# Altium footprint library Demo_Board_library_PCB.PcbLib: 41 footprints (part 3 of 3)
Each footprint in its own frame and in the unit in brackets; x right, y up, seen from the top. Pads: shape width x height; smd on the part's side, far side on the other; paste and mask are expansions set on the pad; w line width, h text height; cw(c..) or ccw(c..) is an arc to the next point about the centre after c.
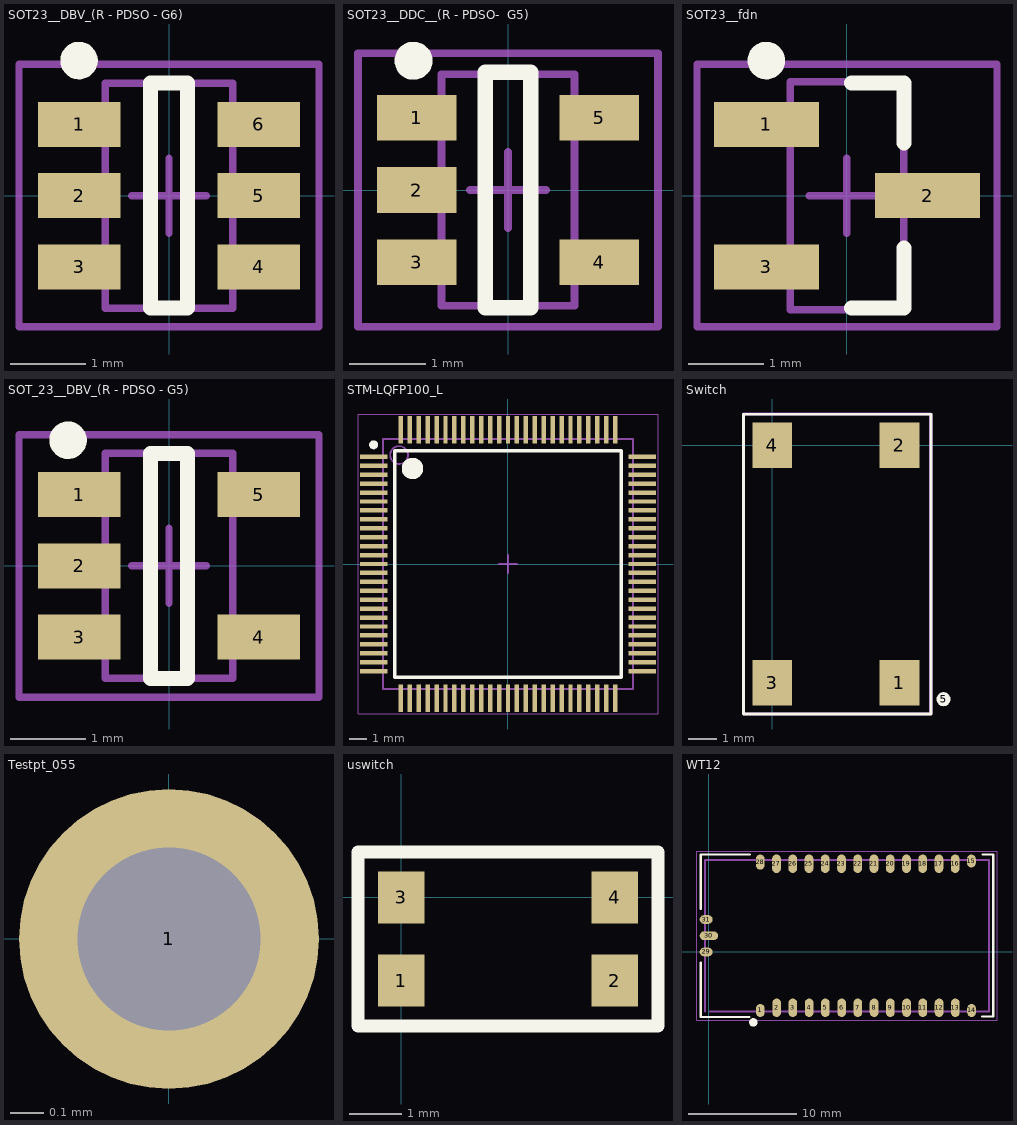
[diagram p2: the footprints below, top view; thin cyan lines are the x and y axes]

## SOT23__DBV_(R - PDSO - G6) [mm]
height 1.45
pads (6):
  rect 1.1x0.6 smd: 1(-1.2,0.95) 2(-1.2,0) 3(-1.2,-0.95) 4(1.2,-0.95) 5(1.2,0) 6(1.2,0.95)
Top Overlay:
  circle w0.25: c-1.2,1.8 r0.125
  lines w0.2: -0.25,-1.5 -0.25,1.5 0.25,1.5 0.25,-1.5 -0.25,-1.5
Mechanical 13:
  lines w0.1: -0.85,-1.5 0.85,-1.5 0.85,1.5 -0.85,1.5 -0.85,-1.5
Mechanical 15:
  lines w0.1: -0.5,0 0.5,0 ; 0,-0.5 0,0.5 ; -2,-1.75 2,-1.75 2,1.75 -2,1.75 -2,-1.75
3D body: height 1.45, standoff 0.15, extent -0.85,-1.5 0.85,1.5

## SOT23__DDC__(R - PDSO-  G5) [mm]
height 1.1
pads (5):
  rect 1.05x0.6 smd: 1(-1.2,0.95) 2(-1.2,0) 3(-1.2,-0.95) 4(1.2,-0.95) 5(1.2,0.95)
Top Overlay:
  circle w0.25: c-1.245,1.702 r0.125
  lines w0.2: -0.3,-1.55 0.3,-1.55 0.3,1.55 -0.3,1.55 -0.3,-1.55
Mechanical 13:
  lines w0.1: -0.875,-1.525 0.875,-1.525 0.875,1.525 -0.875,1.525 -0.875,-1.525
Mechanical 15:
  lines w0.1: -0.5,0 0.5,0 ; 0,-0.5 0,0.5 ; -1.975,-1.8 -1.975,1.8 1.975,1.8 1.975,-1.8 -1.975,-1.8
3D body: height 1.1, standoff 0.1, extent -0.875,-1.525 0.875,1.525

## SOT23__fdn [mm] "Footprint PMOS ed NMOS Misurazione batteria"
height 1.12
pads (3):
  rect 1.4x0.6 smd: 1(-1.075,0.95) 2(1.075,0) 3(-1.075,-0.95)
Top Overlay:
  circle w0.25: c-1.075,1.8 r0.125
  lines w0.2: 0.06,-1.5 0.76,-1.5 0.76,-0.7 ; 0.06,1.5 0.76,1.5 0.76,0.7
Mechanical 13:
  lines w0.1: -0.76,-1.52 0.76,-1.52 0.76,1.52 -0.76,1.52 -0.76,-1.52
Mechanical 15:
  lines w0.1: -0.5,0 0.5,0 ; 0,-0.5 0,0.5 ; -2,-1.75 2,-1.75 2,1.75 -2,1.75 -2,-1.75
3D body: height 1.12, standoff 0.1, extent -0.76,-1.52 0.76,1.52

## SOT_23__DBV_(R - PDSO - G5) [mm]
height 1.45
pads (5):
  rect 1.1x0.6 smd: 1(-1.2,0.95) 2(-1.2,0) 3(-1.2,-0.95) 4(1.2,-0.95) 5(1.2,0.95)
Top Overlay:
  circle w0.25: c-1.346,1.676 r0.125
  lines w0.2: -0.25,-1.5 -0.25,1.5 0.25,1.5 0.25,-1.5 -0.25,-1.5
Mechanical 13:
  lines w0.1: -0.85,-1.5 -0.85,1.5 0.85,1.5 0.85,-1.5 -0.85,-1.5
Mechanical 15:
  lines w0.1: -0.5,0 0.5,0 ; 0,-0.5 0,0.5 ; -2,-1.75 2,-1.75 2,1.75 -2,1.75 -2,-1.75
3D body: height 1.45, standoff 0.15, extent -0.85,-1.5 0.85,1.5

## STM-LQFP100_L [mm] "Thin QFP, 100-Leads, Body 14x14mm, Pitch 0.5mm, IPC High Density"
height 1.6
pads (100):
  rect 1.55x0.25 smd: 1(-7.525,6) 2(-7.525,5.5) 3(-7.525,5) 4(-7.525,4.5) 5(-7.525,4) 6(-7.525,3.5) 7(-7.525,3) 8(-7.525,2.5) 9(-7.525,2) 10(-7.525,1.5) 11(-7.525,1) 12(-7.525,0.5) 13(-7.525,0) 14(-7.525,-0.5) 15(-7.525,-1) 16(-7.525,-1.5) 17(-7.525,-2) 18(-7.525,-2.5) 19(-7.525,-3) 20(-7.525,-3.5) 21(-7.525,-4) 22(-7.525,-4.5) 23(-7.525,-5) 24(-7.525,-5.5) 25(-7.525,-6) 51(7.525,-6) 52(7.525,-5.5) 53(7.525,-5) 54(7.525,-4.5) 55(7.525,-4) 56(7.525,-3.5) 57(7.525,-3) 58(7.525,-2.5) 59(7.525,-2) 60(7.525,-1.5) 61(7.525,-1) 62(7.525,-0.5) 63(7.525,0) 64(7.525,0.5) 65(7.525,1) 66(7.525,1.5) 67(7.525,2) 68(7.525,2.5) 69(7.525,3) 70(7.525,3.5) 71(7.525,4) 72(7.525,4.5) 73(7.525,5) 74(7.525,5.5) 75(7.525,6)
  rect 0.25x1.55 smd: 26(-6,-7.525) 27(-5.5,-7.525) 28(-5,-7.525) 29(-4.5,-7.525) 30(-4,-7.525) 31(-3.5,-7.525) 32(-3,-7.525) 33(-2.5,-7.525) 34(-2,-7.525) 35(-1.5,-7.525) 36(-1,-7.525) 37(-0.5,-7.525) 38(0,-7.525) 39(0.5,-7.525) 40(1,-7.525) 41(1.5,-7.525) 42(2,-7.525) 43(2.5,-7.525) 44(3,-7.525) 45(3.5,-7.525) 46(4,-7.525) 47(4.5,-7.525) 48(5,-7.525) 49(5.5,-7.525) 50(6,-7.525) 76(6,7.525) 77(5.5,7.525) 78(5,7.525) 79(4.5,7.525) 80(4,7.525) 81(3.5,7.525) 82(3,7.525) 83(2.5,7.525) 84(2,7.525) 85(1.5,7.525) 86(1,7.525) 87(0.5,7.525) 88(0,7.525) 89(-0.5,7.525) 90(-1,7.525) 91(-1.5,7.525) 92(-2,7.525) 93(-2.5,7.525) 94(-3,7.525) 95(-3.5,7.525) 96(-4,7.525) 97(-4.5,7.525) 98(-5,7.525) 99(-5.5,7.525) 100(-6,7.525)
Top Overlay:
  circle w0.25: c-7.525,6.675 r0.125
  circle w0.6: c-5.35,5.35 r0.3
  lines w0.2: -6.35,-6.35 -6.35,6.35 6.35,6.35 6.35,-6.35 -6.35,-6.35
Mechanical 13:
  circle w0.1: c-6.1,6.1 r0.5
  lines w0.1: -7,-7 -7,7 7,7 7,-7 -7,-7
Mechanical 15:
  lines w0.05: -8.4,-8.4 -8.4,8.4 8.4,8.4 8.4,-8.4 -8.4,-8.4
  lines w0.1: -0.5,0 0.5,0 ; 0,-0.5 0,0.5
3D body: height 1.6, standoff 0.05, extent -7,-7 7,7

## Switch [mm] "TL303  switch smd"
pads (5):
  rect 1.4x1.6 smd mask+0.2: 1(4.5,-8.4) 2(4.5,0) 3(0,-8.4) 4(0,0)
  round 0.5 on Top Overlay mask+0.2: 5(6.057,-8.978)
Top Overlay:
  lines w0.1: -1.016,-9.5 5.613,-9.5 5.613,-8.813 5.613,1.092 -1.016,1.092 -1.016,-9.5
Mechanical 13:
  lines w0.1: -1,-9.5 5.5,-9.5 5.6,-9.5 5.6,1.1 -1,1.1 -1,1 -1,-9.5
Mechanical 15:
  lines w0.1: -1.016,-9.5 5.613,-9.5 5.613,1.092 -1.016,1.092 -1.016,-9.5
3D body: height 2.6, standoff 0, extent -1.05,-9.55 5.65,1.15

## Testpt_055 [mm]
pads (1):
  round 0.9 hole 0.55: 1(0,0)

## uswitch [mm] "KMR 2 Series Tactile Switch: http://www.farnell.com/datasheets/1792623.pdf"
height 1.9
pads (4):
  rect 0.9x1 smd: 1(0,-1.6) 2(4.1,-1.6) 3(0,0) 4(4.1,0)
Top Overlay:
  lines w0.254: -0.83,-2.47 4.93,-2.47 4.93,0.87 -0.83,0.87 -0.83,-2.47

## WT12 [mm] "Footprint BTOOTH"
pads (32):
  oval 0.8x1.2 smd mask+0.2: 1(4.75,-5.4) 14(24.25,-5.4) 15(24.24,8.4)
  oval 0.8x1.7 smd mask+0.2: 2(6.25,-5.15) 3(7.75,-5.15) 4(9.25,-5.15) 5(10.75,-5.15) 6(12.25,-5.15) 7(13.75,-5.15) 8(15.25,-5.15) 9(16.75,-5.15) 10(18.25,-5.15) 11(19.75,-5.15) 12(21.25,-5.15) 13(22.75,-5.15) 16(22.74,8.15) 17(21.24,8.15) 18(19.74,8.15) 19(18.24,8.15) 20(16.74,8.15) 21(15.24,8.15) 22(13.74,8.15) 23(12.24,8.15) 24(10.74,8.15) 25(9.24,8.15) 26(7.74,8.15) 27(6.24,8.15)
  round 0.8 on Top Overlay mask+0.2: 15(4.1,-6.5)
  oval 0.8x1.4 smd mask+0.2: 28(4.74,8.3)
  oval 1.2x0.8 smd mask+0.2: 29(-0.25,0) 31(-0.25,3)
  oval 1.7x0.8 smd mask+0.2: 30(0,1.5)
Top Overlay:
  lines w0.2: -0.75,-1 -0.75,-6 3.75,-6 ; -0.75,4 -0.75,9 3.8,9 ; 25.2,-5.95 26.25,-5.95 26.25,7.35 26.25,9 25.25,9
Top Solder:
  lines w0.05: -0.35,-5.5 0.09,-5.5
Mechanical 13:
  lines w0.2: -0.35,-5.5 -0.35,0 -0.35,8.5 25.85,8.5 25.85,-5.5 0.09,-5.5
Mechanical 15:
  lines w0.1: -1.1,-6.3 -1.1,9.05 -1.1,9.3 26.6,9.3 26.6,-6.3 -1.1,-6.3
3D body: height 2.4, standoff 0, extent -0.45,-5.6 25.95,8.6